# EAGLE library part MICROCHIP_SST25WFXXX (library m_ic-other)
Microchip SST25WF080B 8 Mbit, 1.8V, 40MHz SPI Serial Flash Features Single Voltage Read and Write Operations - 1.65-1.95V Serial Interface Architecture - SPI Compatible: Mode 0 and Mode 3 High Speed Clock Frequency up to 40MHz Dual Input/Output Support - Fast-Read Dual-Output Instruction (3BH) - Fast-Read Dual I/O Instruction (BBH) Superior Reliability - Endurance: 100,000 Cycles - Greater than 20 years Data Retention Ultra-Low Power Consumption: - Active Read Current: 4 mA (typical) - Standby Current: 10 μA (typical) - Power-down Mode Standby Current: 4 μA (typical) Flexible Erase Capability - Uniform 4 KByte sectors - Uniform 64 KByte overlay blocks Page Program Mode up to 256 Bytes/Page Fast Erase and Page-Program: - Chip-Erase Time: 500 ms (typical) - Sector-Erase Time: 40 ms (typical) - Block-Erase Time: 80 ms (typical) - Page-Program Time: 0.8 ms/ 256 bytes (typical) End-of-Write Detection with Software polling the BUSY bit in Status Register Hold Pin (HOLD#) to Suspend a serial sequence without deselecting the device Write Protection Pin (WP#) - Enables/Disables the Lock-Down function of the status register Software Write Protection- Write protection through Block-Protection bits in status register Temperature Range: -40°C to +85°C Packages Available - 8-lead SOIC (150 mils) - 8-contact USON (2mm x 3mm) All devices are RoHS compliant Product Description SST25WF080B is a member of the Serial Flash 25 Series family and feature a four-wire, SPI-compatible interface that allows for a low pin-count package which occupies less board space and ultimately lowers total system costs. SPI serial flash memory is manufactured with proprietary, high-performance CMOS SuperFlash technology. The split-gate cell design and thick-oxide tunneling injector attain better reliability and manufacturability compared with alternate approaches. This Serial Flash significantly improve performance and reliability, while lowering power consumption. The device writes (Program or Erase) with a single power supply of 1.65-1.95V. The total energy consumed is a function of the applied voltage, current, and time of application. Since for any given voltage range, the SuperFlash technology uses less current to program and has a shorter erase time, the total energy consumed during any Erase or Program operation is less than alternative flash memory technologies. Datasheet Download <http://www.microchip.com/wwwproducts/en/sst25wf080b> Octopart Search <https://octopart.com/search?q=SST25WF080B%3F-40I%2F*> Added 2017-01-13, Microchip document DS20005164C
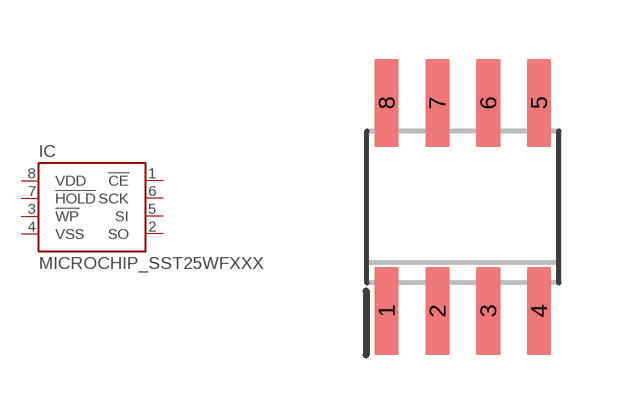
[diagram p3: symbol with the pads of SO-08; footprint SO-08]

Designator prefix IC

## MICROCHIP_SST25WFXXX/SN (MANUF: Microchip; PARTNUM: SST25WF080B?-40I/SN)  [SO-08]
1  !CE  pas
2  SO  pas
3  !WP  pas
4  VSS  pas
5  SI  pas
6  SCK  pas
7  !HOLD  pas
8  VDD  pas

## Footprint SO-08 (pad centres in mm)
Small Outline Narrow Plastic Gull Wing 150-mil body, package type SN Copied from microchip.lbr on 2017-01-13. Checked against Microchip 8-Lead Plastic Small Outline (SN) - Narrow, 3.9 mm Body [SOIC] drawing. Added missing T_Place layer.
smd 0.6 x 2.2: 1 -1.905,-2.6; 2 -0.635,-2.6; 3 0.635,-2.6; 4 1.905,-2.6; 5 1.905,2.6; 6 0.635,2.6; 7 -0.635,2.6; 8 -1.905,2.6